# Altium schematic symbol library kmilo17pet-TI_MSP430.SchLib: 1463 symbols (part 113 of 130)
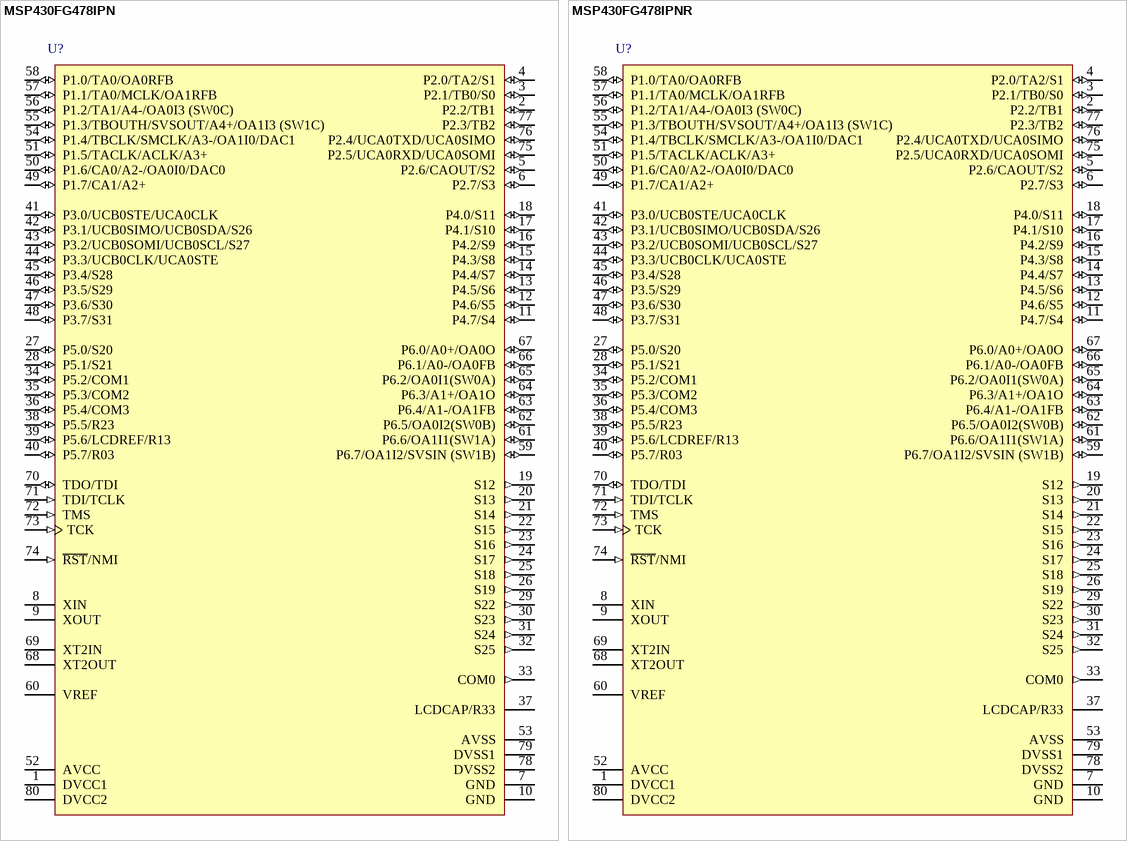
[diagram p292: symbols MSP430FG478IPN to MSP430FG478IPNR]

## MSP430FG478IPNR
designator U?
8 MHz Mixed Signal Microcontroller with 48 KB Flash, 2048 B SRAM and 48 GPIOs, -40 to 85 degC, 80-pin QFP (PN), Green (RoHS & no Sb/Br); Manufacturer: Texas Instruments; PartNumber: MSP430FG478IPNR; ADC: 16-bit Sigma Delta; Brown Out Reset: Yes; Flash(KB): 48; Frequency(MHz): 8; LCD Segments: 128; SRAM(B): 2048; SubFamily: 4 Series with LCD; Timers - 16-bit: 2; USCI_A (UART/LIN/IrDA/SPI): 1; DatasheetVersion: SLAS580D; PackageReference: PN80; PackageDescription: 80-Pin Plastic Quad Flat Pack, Body 12 x 12 mm, Pitch 0.5 mm; Supplier 1: Digi-Key; Supplier Part Number 1: MSP430FG478IPN-ND; Supplier 2: Newark; Supplier Part Number 2: 24R9828; Supplier 3: Mouser; Supplier Part Number 3: 595-MSP430FG478IPN; Comparators: Yes; Eco-Plan: Green (RoHS & no Sb/Br); GPIO: 48; SVS: Yes; Temp Sensor: Yes; USCI_B (I2C & SPI): 1; Watchdog: Yes; Mounting Technology: Surface Mount; Code_JEDEC: MS-018; ComponentLink1Description: Manufacturer URL; ComponentLink1URL: http://www.ti.com/; ComponentLink2Description: Datasheet; ComponentLink2URL: http://www.ti.com/general/docs/lit/getliterature.tsp?genericPartNumber=MSP430FG478&fileType=pdf; ComponentLink3Description: Package Specification; ComponentLink3URL: http://www.ti.com/lit/ml/mtqf010a/mtqf010a.pdf
footprint TI-PN80_N (QFP, 80-Leads, Body 12x12mm, Pitch 0.5mm, IPC Medium Density)
pins: 1 DVCC1 (power) "Digital supply voltage, positive terminal. Supplies all digital parts.", 2 P2.2/TB1 (io), 3 P2.1/TB0/S0 (io), 4 P2.0/TA2/S1 (io), 5 P2.6/CAOUT/S2 (io), 6 P2.7/S3 (io), 7 GND (power) "Ground. It is used to shield the oscillator.", 8 XIN "Input port for crystal oscillator XT1. Standard or watch crystals can be connected", 9 XOUT "Output port for crystal oscillator XT1. Standard or watch crystals can be connected.", 10 GND (power) "Ground. It is used to shield the oscillator. See Note NO TAG.", 11 P4.7/S4 (io), 12 P4.6/S5 (io), 13 P4.5/S6 (io), 14 P4.4/S7 (io), 15 P4.3/S8 (io), 16 P4.2/S9 (io), 17 P4.1/S10 (io), 18 P4.0/S11 (io), 19 S12 (out) "LCD segment output 12", 20 S13 (out) "LCD segment output 13", 21 S14 (out) "LCD segment output 14", 22 S15 (out) "LCD segment output 15", 23 S16 (out) "LCD segment output 16", 24 S17 (out) "LCD segment output 17", 25 S18 (out) "LCD segment output 18", 26 S19 (out) "LCD segment output 19", 27 P5.0/S20 (io), 28 P5.1/S21 (io), 29 S22 (out) "LCD segment output 22", 30 S23 (out) "LCD segment output 23", 31 S24 (out) "LCD segment output 24", 32 S25 (out) "LCD segment output 25", 33 COM0 (out) "Common output, COM0--3 are used for LCD backplanes", 34 P5.2/COM1 (io), 35 P5.3/COM2 (io), 36 P5.4/COM3 (io), 37 LCDCAP/R33, 38 P5.5/R23 (io), 39 P5.6/LCDREF/R13 (io), 40 P5.7/R03 (io), 41 P3.0/UCB0STE/UCA0CLK (io), 42 P3.1/UCB0SIMO/UCB0SDA/S26 (io), 43 P3.2/UCB0SOMI/UCB0SCL/S27 (io), 44 P3.3/UCB0CLK/UCA0STE (io), 45 P3.4/S28 (io), 46 P3.5/S29 (io), 47 P3.6/S30 (io), 48 P3.7/S31 (io), 49 P1.7/CA1/A2+ (io), 50 P1.6/CA0/A2-/OA0I0/DAC0 (io), 51 P1.5/TACLK/ACLK/A3+ (io), 52 AVCC (power) "Analog supply voltage, positive terminal.", 53 AVSS (power) "Analog supply voltage, negative terminal.", 54 P1.4/TBCLK/SMCLK/A3-/OA1I0/DAC1 (io), 55 P1.3/TBOUTH/SVSOUT/A4+/OA1I3 (SW1C) (io), 56 P1.2/TA1/A4-/OA0I3 (SW0C) (io), 57 P1.1/TA0/MCLK/OA1RFB (io), 58 P1.0/TA0/OA0RFB (io), 59 P6.7/OA1I2/SVSIN (SW1B) (io), 60 VREF "Input for an external reference voltage/internal reference voltage output", 61 P6.6/OA1I1(SW1A) (io), 62 P6.5/OA0I2(SW0B) (io), 63 P6.4/A1-/OA1FB (io), 64 P6.3/A1+/OA1O (io), 65 P6.2/OA0I1(SW0A) (io), 66 P6.1/A0-/OA0FB (io), 67 P6.0/A0+/OA0O (io), 68 XT2OUT "Output terminal of crystal oscillator XT2", 69 XT2IN "Input port for crystal oscillator XT2", 70 TDO/TDI (io), 71 TDI/TCLK (in), 72 TMS (in) "Test mode select. TMS is used as an input port for device programming and test.", 73 TCK (in) "Test clock (JTAG). TCK is the clock input port for device programming test and bootstrap loader start.", 74 ~{RST}/NMI (in) "Reset input, nonmaskable interrupt input port, or bootstrap loader start (in flash devices).", 75 P2.5/UCA0RXD/UCA0SOMI (io), 76 P2.4/UCA0TXD/UCA0SIMO (io), 77 P2.3/TB2 (io), 78 DVSS2 (power) "Digital supply voltage, negative terminal. Supplies all digital parts.", 79 DVSS1 (power) "Digital supply voltage, negative terminal. Supplies all digital parts.", 80 DVCC2 (power) "Digital supply voltage, positive terminal. Supplies all digital parts."

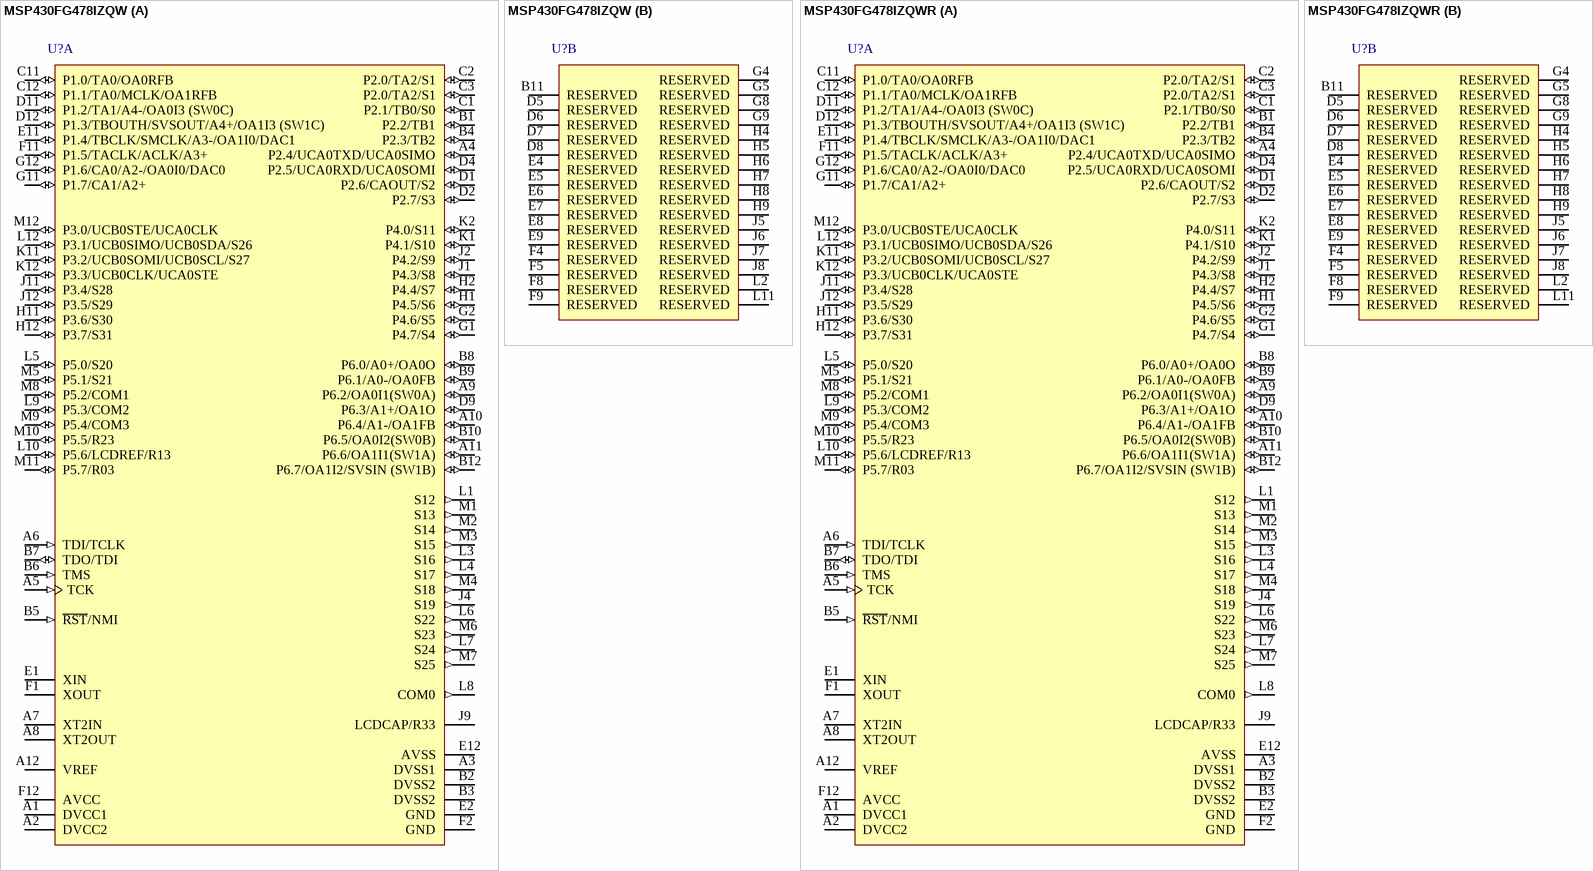
[diagram p189: symbols MSP430FG478IZQW to MSP430FG478IZQWR]

## MSP430FG478IZQW
designator U?
8 MHz Mixed Signal Microcontroller with 48 KB Flash, 2048 B SRAM and 48 GPIOs, -40 to 85 degC, 113-pin BGA (ZQW), Green (RoHS & no Sb/Br); Manufacturer: Texas Instruments; PartNumber: MSP430FG478IZQW; ADC: 16-bit Sigma Delta; Brown Out Reset: Yes; Flash(KB): 48; Frequency(MHz): 8; LCD Segments: 128; SRAM(B): 2048; SubFamily: 4 Series with LCD; Timers - 16-bit: 2; USCI_A (UART/LIN/IrDA/SPI): 1; DatasheetVersion: SLAS580D; PackageVersion: 4204599-3/D; PackageReference: ZQW113; PackageDescription: 113-Pin Plastic Ball Grid Array Package, Body 7 x 7 mm, Pitch 0.5 mm; Supplier 1: Digi-Key; Supplier Part Number 1: 296-25388-2-ND; Supplier 2: Digi-Key; Supplier Part Number 2: 296-25388-1-ND; Supplier 3: Digi-Key; Supplier Part Number 3: 296-25388-6-ND; Supplier 4: Newark; Supplier Part Number 4: 24R9829; Supplier 5: Mouser; Supplier Part Number 5: 595-MSP430FG478IPNR; Comparators: Yes; Eco-Plan: Green (RoHS & no Sb/Br); GPIO: 48; SVS: Yes; Temp Sensor: Yes; USCI_B (I2C & SPI): 1; Watchdog: Yes; Mounting Technology: Surface Mount; Code_JEDEC: MO-225; ComponentLink1Description: Manufacturer URL; ComponentLink1URL: http://www.ti.com/; ComponentLink2Description: Datasheet; ComponentLink2URL: http://www.ti.com/general/docs/lit/getliterature.tsp?genericPartNumber=MSP430FG478&fileType=pdf; ComponentLink3Description: Package Specification; ComponentLink3URL: http://www.ti.com/lit/ml/mpbg674/mpbg674.pdf
footprint TI-ZQW113 (BGA, 113-Balls, Body 7x7mm, Pitch 0.5mm)
part A pins: A1 DVCC1 (power) "Digital supply voltage, positive terminal. Supplies all digital parts.", A2 DVCC2 (power) "Digital supply voltage, positive terminal. Supplies all digital parts.", A3 DVSS1 (power) "Digital supply voltage, negative terminal. Supplies all digital parts.", A4 P2.4/UCA0TXD/UCA0SIMO (io), A5 TCK (in) "Test clock (JTAG). TCK is the clock input port for device programming test and bootstrap loader start.", A6 TDI/TCLK (in), A7 XT2IN "Input port for crystal oscillator XT2", A8 XT2OUT "Output terminal of crystal oscillator XT2", A9 P6.2/OA0I1(SW0A) (io), A10 P6.4/A1-/OA1FB (io), A11 P6.6/OA1I1(SW1A) (io), A12 VREF "Input for an external reference voltage/internal reference voltage output", B1 P2.2/TB1 (io), B2 DVSS2 (power) "Digital supply voltage, negative terminal. Supplies all digital parts.", B3 DVSS2 (power) "Digital supply voltage, negative terminal. Supplies all digital parts.", B4 P2.3/TB2 (io), B5 ~{RST}/NMI (in), B6 TMS (in) "Test mode select. TMS is used as an input port for device programming and test.", B7 TDO/TDI (io), B8 P6.0/A0+/OA0O (io), B9 P6.1/A0-/OA0FB (io), B10 P6.5/OA0I2(SW0B) (io), B12 P6.7/OA1I2/SVSIN (SW1B) (io), C1 P2.1/TB0/S0 (io), C2 P2.0/TA2/S1 (io), C3 P2.0/TA2/S1 (io), C11 P1.0/TA0/OA0RFB (io), C12 P1.1/TA0/MCLK/OA1RFB (io), D1 P2.6/CAOUT/S2 (io), D2 P2.7/S3 (io), D4 P2.5/UCA0RXD/UCA0SOMI (io), D9 P6.3/A1+/OA1O (io), D11 P1.2/TA1/A4-/OA0I3 (SW0C) (io), D12 P1.3/TBOUTH/SVSOUT/A4+/OA1I3 (SW1C) (io), E1 XIN "Input port for crystal oscillator XT1. Standard or watch crystals can be connected.", E2 GND "Ground. It is used to shield the oscillator.", E11 P1.4/TBCLK/SMCLK/A3-/OA1I0/DAC1 (io), E12 AVSS "Analog supply voltage, negative terminal.", F1 XOUT "Output port for crystal oscillator XT1. Standard or watch crystals can be connected.", F2 GND "Ground. It is used to shield the oscillator. See Note NO TAG.", F11 P1.5/TACLK/ACLK/A3+ (io), F12 AVCC (power) "Analog supply voltage, positive terminal.", G1 P4.7/S4 (io), G2 P4.6/S5 (io), G11 P1.7/CA1/A2+ (io), G12 P1.6/CA0/A2-/OA0I0/DAC0 (io), H1 P4.5/S6 (io), H2 P4.4/S7 (io), H11 P3.6/S30 (io), H12 P3.7/S31 (io), J1 P4.3/S8 (io), J2 P4.2/S9 (io), J4 S19 (out) "LCD segment output 19", J9 LCDCAP/R33, J11 P3.4/S28 (io), J12 P3.5/S29 (io), K1 P4.1/S10 (io), K2 P4.0/S11 (io), K11 P3.2/UCB0SOMI/UCB0SCL/S27 (io), K12 P3.3/UCB0CLK/UCA0STE (io), L1 S12 (out) "LCD segment output 12", L3 S16 (out) "LCD segment output 16", L4 S17 (out) "LCD segment output 17", L5 P5.0/S20 (io), L6 S22 (out) "LCD segment output 22", L7 S24 (out) "LCD segment output 24", L8 COM0 (out) "Common output, COM0-3 are used for LCD backplanes", L9 P5.3/COM2 (io), L10 P5.6/LCDREF/R13 (io), L12 P3.1/UCB0SIMO/UCB0SDA/S26 (io), M1 S13 (out) "LCD segment output 13", M2 S14 (out) "LCD segment output 14", M3 S15 (out) "LCD segment output 15", M4 S18 (out) "LCD segment output 18", M5 P5.1/S21 (io), M6 S23 (out) "LCD segment output 23", M7 S25 (out) "LCD segment output 25", M8 P5.2/COM1 (io), M9 P5.4/COM3 (io), M10 P5.5/R23 (io), M11 P5.7/R03 (io), M12 P3.0/UCB0STE/UCA0CLK (io)
part B pins: B11 RESERVED "BGA package unused balls. Connection to DVSS/AVSS recommended.", D5 RESERVED "BGA package unused balls. Connection to DVSS/AVSS recommended.", D6 RESERVED "BGA package unused balls. Connection to DVSS/AVSS recommended.", D7 RESERVED "BGA package unused balls. Connection to DVSS/AVSS recommended.", D8 RESERVED "BGA package unused balls. Connection to DVSS/AVSS recommended.", E4 RESERVED "BGA package unused balls. Connection to DVSS/AVSS recommended.", E5 RESERVED "BGA package unused balls. Connection to DVSS/AVSS recommended.", E6 RESERVED "BGA package unused balls. Connection to DVSS/AVSS recommended.", E7 RESERVED "BGA package unused balls. Connection to DVSS/AVSS recommended.", E8 RESERVED "BGA package unused balls. Connection to DVSS/AVSS recommended.", E9 RESERVED "BGA package unused balls. Connection to DVSS/AVSS recommended.", F4 RESERVED "BGA package unused balls. Connection to DVSS/AVSS recommended.", F5 RESERVED "BGA package unused balls. Connection to DVSS/AVSS recommended.", F8 RESERVED "BGA package unused balls. Connection to DVSS/AVSS recommended.", F9 RESERVED "BGA package unused balls. Connection to DVSS/AVSS recommended.", G4 RESERVED "BGA package unused balls. Connection to DVSS/AVSS recommended.", G5 RESERVED "BGA package unused balls. Connection to DVSS/AVSS recommended.", G8 RESERVED "BGA package unused balls. Connection to DVSS/AVSS recommended.", G9 RESERVED "BGA package unused balls. Connection to DVSS/AVSS recommended.", H4 RESERVED "BGA package unused balls. Connection to DVSS/AVSS recommended.", H5 RESERVED "BGA package unused balls. Connection to DVSS/AVSS recommended.", H6 RESERVED "BGA package unused balls. Connection to DVSS/AVSS recommended.", H7 RESERVED "BGA package unused balls. Connection to DVSS/AVSS recommended.", H8 RESERVED "BGA package unused balls. Connection to DVSS/AVSS recommended.", H9 RESERVED "BGA package unused balls. Connection to DVSS/AVSS recommended.", J5 RESERVED "BGA package unused balls. Connection to DVSS/AVSS recommended.", J6 RESERVED "BGA package unused balls. Connection to DVSS/AVSS recommended.", J7 RESERVED "BGA package unused balls. Connection to DVSS/AVSS recommended.", J8 RESERVED "BGA package unused balls. Connection to DVSS/AVSS recommended.", L2 RESERVED "BGA package unused balls. Connection to DVSS/AVSS recommended.", L11 RESERVED "BGA package unused balls. Connection to DVSS/AVSS recommended."

## MSP430FG478IZQWR
designator U?
8 MHz Mixed Signal Microcontroller with 48 KB Flash, 2048 B SRAM and 48 GPIOs, -40 to 85 degC, 113-pin BGA (ZQW), Green (RoHS & no Sb/Br); Manufacturer: Texas Instruments; PartNumber: MSP430FG478IZQWR; ADC: 16-bit Sigma Delta; Brown Out Reset: Yes; Flash(KB): 48; Frequency(MHz): 8; LCD Segments: 128; SRAM(B): 2048; SubFamily: 4 Series with LCD; Timers - 16-bit: 2; USCI_A (UART/LIN/IrDA/SPI): 1; DatasheetVersion: SLAS580D; PackageVersion: 4204599-3/D; PackageReference: ZQW113; PackageDescription: 113-Pin Plastic Ball Grid Array Package, Body 7 x 7 mm, Pitch 0.5 mm; Supplier 1: Digi-Key; Supplier Part Number 1: MSP430FG478IZQW-ND; Supplier 2: Mouser; Supplier Part Number 2: 595-MSP430FG478IZQW; Comparators: Yes; Eco-Plan: Green (RoHS & no Sb/Br); GPIO: 48; SVS: Yes; Temp Sensor: Yes; USCI_B (I2C & SPI): 1; Watchdog: Yes; Mounting Technology: Surface Mount; Code_JEDEC: MO-225; ComponentLink1Description: Manufacturer URL; ComponentLink1URL: http://www.ti.com/; ComponentLink2Description: Datasheet; ComponentLink2URL: http://www.ti.com/general/docs/lit/getliterature.tsp?genericPartNumber=MSP430FG478&fileType=pdf; ComponentLink3Description: Package Specification; ComponentLink3URL: http://www.ti.com/lit/ml/mpbg674/mpbg674.pdf
footprint TI-ZQW113 (BGA, 113-Balls, Body 7x7mm, Pitch 0.5mm)
part A pins: A1 DVCC1 (power) "Digital supply voltage, positive terminal. Supplies all digital parts.", A2 DVCC2 (power) "Digital supply voltage, positive terminal. Supplies all digital parts.", A3 DVSS1 (power) "Digital supply voltage, negative terminal. Supplies all digital parts.", A4 P2.4/UCA0TXD/UCA0SIMO (io), A5 TCK (in) "Test clock (JTAG). TCK is the clock input port for device programming test and bootstrap loader start.", A6 TDI/TCLK (in), A7 XT2IN "Input port for crystal oscillator XT2", A8 XT2OUT "Output terminal of crystal oscillator XT2", A9 P6.2/OA0I1(SW0A) (io), A10 P6.4/A1-/OA1FB (io), A11 P6.6/OA1I1(SW1A) (io), A12 VREF "Input for an external reference voltage/internal reference voltage output", B1 P2.2/TB1 (io), B2 DVSS2 (power) "Digital supply voltage, negative terminal. Supplies all digital parts.", B3 DVSS2 (power) "Digital supply voltage, negative terminal. Supplies all digital parts.", B4 P2.3/TB2 (io), B5 ~{RST}/NMI (in), B6 TMS (in) "Test mode select. TMS is used as an input port for device programming and test.", B7 TDO/TDI (io), B8 P6.0/A0+/OA0O (io), B9 P6.1/A0-/OA0FB (io), B10 P6.5/OA0I2(SW0B) (io), B12 P6.7/OA1I2/SVSIN (SW1B) (io), C1 P2.1/TB0/S0 (io), C2 P2.0/TA2/S1 (io), C3 P2.0/TA2/S1 (io), C11 P1.0/TA0/OA0RFB (io), C12 P1.1/TA0/MCLK/OA1RFB (io), D1 P2.6/CAOUT/S2 (io), D2 P2.7/S3 (io), D4 P2.5/UCA0RXD/UCA0SOMI (io), D9 P6.3/A1+/OA1O (io), D11 P1.2/TA1/A4-/OA0I3 (SW0C) (io), D12 P1.3/TBOUTH/SVSOUT/A4+/OA1I3 (SW1C) (io), E1 XIN "Input port for crystal oscillator XT1. Standard or watch crystals can be connected.", E2 GND "Ground. It is used to shield the oscillator.", E11 P1.4/TBCLK/SMCLK/A3-/OA1I0/DAC1 (io), E12 AVSS "Analog supply voltage, negative terminal.", F1 XOUT "Output port for crystal oscillator XT1. Standard or watch crystals can be connected.", F2 GND "Ground. It is used to shield the oscillator. See Note NO TAG.", F11 P1.5/TACLK/ACLK/A3+ (io), F12 AVCC (power) "Analog supply voltage, positive terminal.", G1 P4.7/S4 (io), G2 P4.6/S5 (io), G11 P1.7/CA1/A2+ (io), G12 P1.6/CA0/A2-/OA0I0/DAC0 (io), H1 P4.5/S6 (io), H2 P4.4/S7 (io), H11 P3.6/S30 (io), H12 P3.7/S31 (io), J1 P4.3/S8 (io), J2 P4.2/S9 (io), J4 S19 (out) "LCD segment output 19", J9 LCDCAP/R33, J11 P3.4/S28 (io), J12 P3.5/S29 (io), K1 P4.1/S10 (io), K2 P4.0/S11 (io), K11 P3.2/UCB0SOMI/UCB0SCL/S27 (io), K12 P3.3/UCB0CLK/UCA0STE (io), L1 S12 (out) "LCD segment output 12", L3 S16 (out) "LCD segment output 16", L4 S17 (out) "LCD segment output 17", L5 P5.0/S20 (io), L6 S22 (out) "LCD segment output 22", L7 S24 (out) "LCD segment output 24", L8 COM0 (out) "Common output, COM0-3 are used for LCD backplanes", L9 P5.3/COM2 (io), L10 P5.6/LCDREF/R13 (io), L12 P3.1/UCB0SIMO/UCB0SDA/S26 (io), M1 S13 (out) "LCD segment output 13", M2 S14 (out) "LCD segment output 14", M3 S15 (out) "LCD segment output 15", M4 S18 (out) "LCD segment output 18", M5 P5.1/S21 (io), M6 S23 (out) "LCD segment output 23", M7 S25 (out) "LCD segment output 25", M8 P5.2/COM1 (io), M9 P5.4/COM3 (io), M10 P5.5/R23 (io), M11 P5.7/R03 (io), M12 P3.0/UCB0STE/UCA0CLK (io)
part B pins: B11 RESERVED "BGA package unused balls. Connection to DVSS/AVSS recommended.", D5 RESERVED "BGA package unused balls. Connection to DVSS/AVSS recommended.", D6 RESERVED "BGA package unused balls. Connection to DVSS/AVSS recommended.", D7 RESERVED "BGA package unused balls. Connection to DVSS/AVSS recommended.", D8 RESERVED "BGA package unused balls. Connection to DVSS/AVSS recommended.", E4 RESERVED "BGA package unused balls. Connection to DVSS/AVSS recommended.", E5 RESERVED "BGA package unused balls. Connection to DVSS/AVSS recommended.", E6 RESERVED "BGA package unused balls. Connection to DVSS/AVSS recommended.", E7 RESERVED "BGA package unused balls. Connection to DVSS/AVSS recommended.", E8 RESERVED "BGA package unused balls. Connection to DVSS/AVSS recommended.", E9 RESERVED "BGA package unused balls. Connection to DVSS/AVSS recommended.", F4 RESERVED "BGA package unused balls. Connection to DVSS/AVSS recommended.", F5 RESERVED "BGA package unused balls. Connection to DVSS/AVSS recommended.", F8 RESERVED "BGA package unused balls. Connection to DVSS/AVSS recommended.", F9 RESERVED "BGA package unused balls. Connection to DVSS/AVSS recommended.", G4 RESERVED "BGA package unused balls. Connection to DVSS/AVSS recommended.", G5 RESERVED "BGA package unused balls. Connection to DVSS/AVSS recommended.", G8 RESERVED "BGA package unused balls. Connection to DVSS/AVSS recommended.", G9 RESERVED "BGA package unused balls. Connection to DVSS/AVSS recommended.", H4 RESERVED "BGA package unused balls. Connection to DVSS/AVSS recommended.", H5 RESERVED "BGA package unused balls. Connection to DVSS/AVSS recommended.", H6 RESERVED "BGA package unused balls. Connection to DVSS/AVSS recommended.", H7 RESERVED "BGA package unused balls. Connection to DVSS/AVSS recommended.", H8 RESERVED "BGA package unused balls. Connection to DVSS/AVSS recommended.", H9 RESERVED "BGA package unused balls. Connection to DVSS/AVSS recommended.", J5 RESERVED "BGA package unused balls. Connection to DVSS/AVSS recommended.", J6 RESERVED "BGA package unused balls. Connection to DVSS/AVSS recommended.", J7 RESERVED "BGA package unused balls. Connection to DVSS/AVSS recommended.", J8 RESERVED "BGA package unused balls. Connection to DVSS/AVSS recommended.", L2 RESERVED "BGA package unused balls. Connection to DVSS/AVSS recommended.", L11 RESERVED "BGA package unused balls. Connection to DVSS/AVSS recommended."

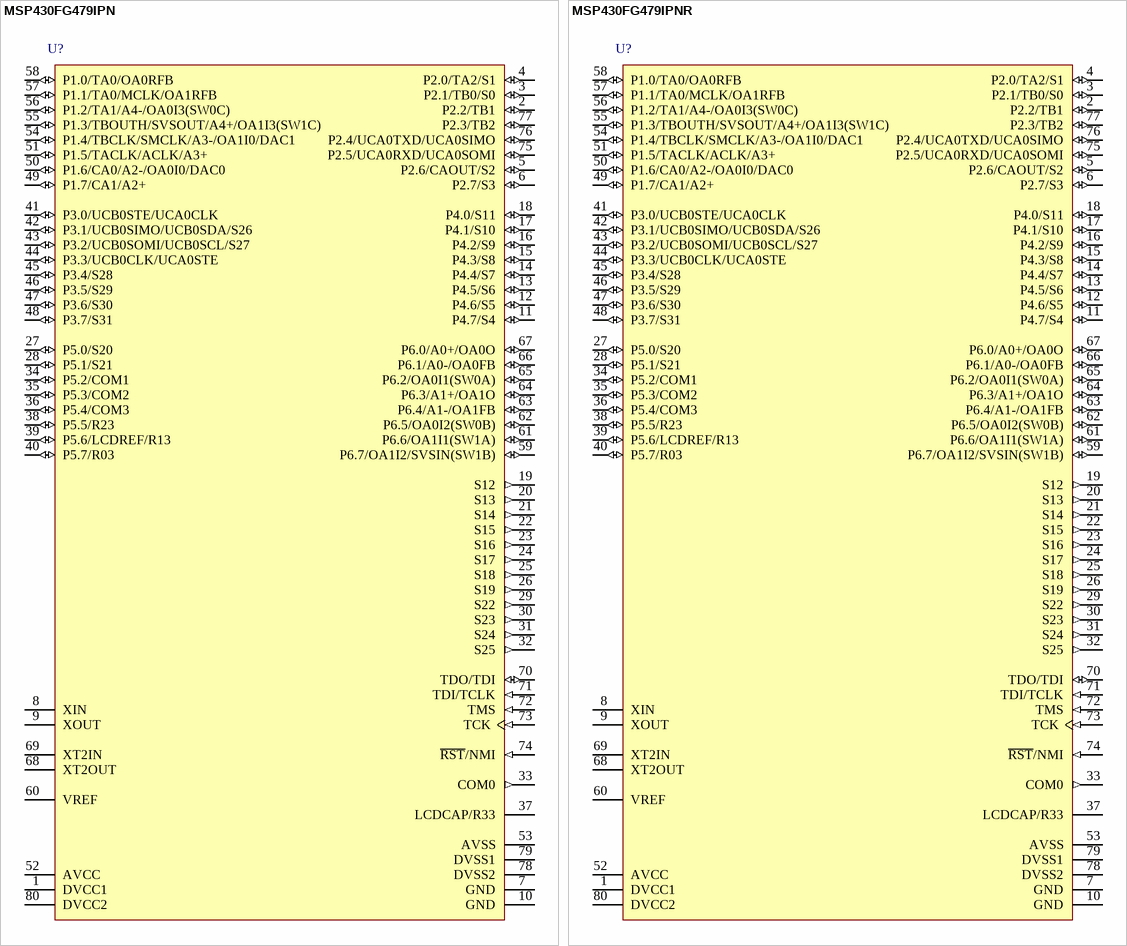
[diagram p190: symbols MSP430FG479IPN to MSP430FG479IPNR]

## MSP430FG479IPN
designator U?
8 MHz Mixed Signal Microcontroller with 60 KB Flash, 2048 B SRAM and 48 GPIOs, -40 to 85 degC, 80-pin QFP (PN), Green (RoHS & no Sb/Br); Manufacturer: Texas Instruments; PartNumber: MSP430FG479IPN; ADC: 16-bit Sigma Delta; Brown Out Reset: Yes; Flash(KB): 60; Frequency(MHz): 8; GPIO: 48; LCD Segments: 128; SRAM(B): 2048; SubFamily: 4 Series with LCD; Timers - 16-bit: 2; USCI_A (UART/LIN/IrDA/SPI): 1; DatasheetVersion: SLAS580D; PackageReference: PN80; PackageDescription: 80-Pin Plastic Quad Flat Pack, Body 12 x 12 mm, Pitch 0.5 mm; Supplier 1: Digi-Key; Supplier Part Number 1: 296-26207-5-ND; Supplier 2: Farnell; Supplier Part Number 2: 1649422; Supplier 3: Newark; Supplier Part Number 3: 28M6334; Supplier 4: Mouser; Supplier Part Number 4: 595-MSP430F2254IDA; Comparators: Yes; Eco-Plan: Green (RoHS & no Sb/Br); SVS: Yes; Temp Sensor: Yes; USCI_B (I2C & SPI): 1; Watchdog: Yes; Mounting Technology: Surface Mount; Code_JEDEC: MS-018; ComponentLink1Description: Manufacturer URL; ComponentLink1URL: http://www.ti.com/; ComponentLink2Description: Datasheet; ComponentLink2URL: http://www.ti.com/general/docs/lit/getliterature.tsp?genericPartNumber=MSP430FG479&fileType=pdf; ComponentLink3Description: Package Specification; ComponentLink3URL: http://www.ti.com/lit/ml/mtqf010a/mtqf010a.pdf
footprint TI-PN80_N (QFP, 80-Leads, Body 12x12mm, Pitch 0.5mm, IPC Medium Density)
pins: 1 DVCC1 (power) "Digital supply voltage, positive terminal. Supplies all digital parts.", 2 P2.2/TB1 (io), 3 P2.1/TB0/S0 (io), 4 P2.0/TA2/S1 (io), 5 P2.6/CAOUT/S2 (io), 6 P2.7/S3 (io), 7 GND (power) "Ground. It is used to shield the oscillator. See Note 1.", 8 XIN "Input port for crystal oscillator XT1. Standard or watch crystals can be connected.", 9 XOUT "Output port for crystal oscillator XT1. Standard or watch crystals can be connected.", 10 GND (power) "Ground. It is used to shield the oscillator. See Note NO TAG.", 11 P4.7/S4 (io), 12 P4.6/S5 (io), 13 P4.5/S6 (io), 14 P4.4/S7 (io), 15 P4.3/S8 (io), 16 P4.2/S9 (io), 17 P4.1/S10 (io), 18 P4.0/S11 (io), 19 S12 (out) "LCD segment output 12", 20 S13 (out) "LCD segment output 13", 21 S14 (out) "LCD segment output 14", 22 S15 (out) "LCD segment output 15", 23 S16 (out) "LCD segment output 16", 24 S17 (out) "LCD segment output 17", 25 S18 (out) "LCD segment output 18", 26 S19 (out) "LCD segment output 19", 27 P5.0/S20 (io), 28 P5.1/S21 (io), 29 S22 (out) "LCD segment output 22", 30 S23 (out) "LCD segment output 23", 31 S24 (out) "LCD segment output 24", 32 S25 (out) "LCD segment output 25", 33 COM0 (out) "Common output, COM0--3 are used for LCD backplanes", 34 P5.2/COM1 (io), 35 P5.3/COM2 (io), 36 P5.4/COM3 (io), 37 LCDCAP/R33, 38 P5.5/R23 (io), 39 P5.6/LCDREF/R13 (io), 40 P5.7/R03 (io), 41 P3.0/UCB0STE/UCA0CLK (io), 42 P3.1/UCB0SIMO/UCB0SDA/S26 (io), 43 P3.2/UCB0SOMI/UCB0SCL/S27 (io), 44 P3.3/UCB0CLK/UCA0STE (io), 45 P3.4/S28 (io), 46 P3.5/S29 (io), 47 P3.6/S30 (io), 48 P3.7/S31 (io), 49 P1.7/CA1/A2+ (io), 50 P1.6/CA0/A2-/OA0I0/DAC0 (io), 51 P1.5/TACLK/ACLK/A3+ (io), 52 AVCC (power) "Analog supply voltage, positive terminal.", 53 AVSS (power) "Analog supply voltage, negative terminal.", 54 P1.4/TBCLK/SMCLK/A3-/OA1I0/DAC1 (io), 55 P1.3/TBOUTH/SVSOUT/A4+/OA1I3(SW1C) (io), 56 P1.2/TA1/A4-/OA0I3(SW0C) (io), 57 P1.1/TA0/MCLK/OA1RFB (io), 58 P1.0/TA0/OA0RFB (io), 59 P6.7/OA1I2/SVSIN(SW1B) (io), 60 VREF "Input for an external reference voltage/internal reference voltage output", 61 P6.6/OA1I1(SW1A) (io), 62 P6.5/OA0I2(SW0B) (io), 63 P6.4/A1-/OA1FB (io), 64 P6.3/A1+/OA1O (io), 65 P6.2/OA0I1(SW0A) (io), 66 P6.1/A0-/OA0FB (io), 67 P6.0/A0+/OA0O (io), 68 XT2OUT "Output terminal of crystal oscillator XT2", 69 XT2IN "Input port for crystal oscillator XT2", 70 TDO/TDI (io), 71 TDI/TCLK (in), 72 TMS (in) "Test mode select. TMS is used as an input port for device programming and test.", 73 TCK (in) "Test clock (JTAG). TCK is the clock input port for device programming test and bootstrap loader start.", 74 ~{RST}/NMI (in), 75 P2.5/UCA0RXD/UCA0SOMI (io), 76 P2.4/UCA0TXD/UCA0SIMO (io), 77 P2.3/TB2 (io), 78 DVSS2 "Digital supply voltage, negative terminal. Supplies all digital parts.", 79 DVSS1 "Digital supply voltage, negative terminal. Supplies all digital parts.", 80 DVCC2 (power) "Digital supply voltage, positive terminal. Supplies all digital parts."

## MSP430FG479IPNR
designator U?
8 MHz Mixed Signal Microcontroller with 60 KB Flash, 2048 B SRAM and 48 GPIOs, -40 to 85 degC, 80-pin QFP (PN), Green (RoHS & no Sb/Br); Manufacturer: Texas Instruments; PartNumber: MSP430FG479IPNR; ADC: 16-bit Sigma Delta; Brown Out Reset: Yes; Flash(KB): 60; Frequency(MHz): 8; GPIO: 48; LCD Segments: 128; SRAM(B): 2048; SubFamily: 4 Series with LCD; Timers - 16-bit: 2; USCI_A (UART/LIN/IrDA/SPI): 1; DatasheetVersion: SLAS580D; PackageReference: PN80; PackageDescription: 80-Pin Plastic Quad Flat Pack, Body 12 x 12 mm, Pitch 0.5 mm; Supplier 1: Digi-Key; Supplier Part Number 1: MSP430FG479IPN-ND; Supplier 2: Newark; Supplier Part Number 2: 09R4953; Supplier 3: Mouser; Supplier Part Number 3: 595-MSP430FG479IPN; Comparators: Yes; Eco-Plan: Green (RoHS & no Sb/Br); SVS: Yes; Temp Sensor: Yes; USCI_B (I2C & SPI): 1; Watchdog: Yes; Mounting Technology: Surface Mount; Code_JEDEC: MS-018; ComponentLink1Description: Manufacturer URL; ComponentLink1URL: http://www.ti.com/; ComponentLink2Description: Datasheet; ComponentLink2URL: http://www.ti.com/general/docs/lit/getliterature.tsp?genericPartNumber=MSP430FG479&fileType=pdf; ComponentLink3Description: Package Specification; ComponentLink3URL: http://www.ti.com/lit/ml/mtqf010a/mtqf010a.pdf
footprint TI-PN80_N (QFP, 80-Leads, Body 12x12mm, Pitch 0.5mm, IPC Medium Density)
pins: 1 DVCC1 (power) "Digital supply voltage, positive terminal. Supplies all digital parts.", 2 P2.2/TB1 (io), 3 P2.1/TB0/S0 (io), 4 P2.0/TA2/S1 (io), 5 P2.6/CAOUT/S2 (io), 6 P2.7/S3 (io), 7 GND (power) "Ground. It is used to shield the oscillator. See Note 1.", 8 XIN "Input port for crystal oscillator XT1. Standard or watch crystals can be connected.", 9 XOUT "Output port for crystal oscillator XT1. Standard or watch crystals can be connected.", 10 GND (power) "Ground. It is used to shield the oscillator. See Note NO TAG.", 11 P4.7/S4 (io), 12 P4.6/S5 (io), 13 P4.5/S6 (io), 14 P4.4/S7 (io), 15 P4.3/S8 (io), 16 P4.2/S9 (io), 17 P4.1/S10 (io), 18 P4.0/S11 (io), 19 S12 (out) "LCD segment output 12", 20 S13 (out) "LCD segment output 13", 21 S14 (out) "LCD segment output 14", 22 S15 (out) "LCD segment output 15", 23 S16 (out) "LCD segment output 16", 24 S17 (out) "LCD segment output 17", 25 S18 (out) "LCD segment output 18", 26 S19 (out) "LCD segment output 19", 27 P5.0/S20 (io), 28 P5.1/S21 (io), 29 S22 (out) "LCD segment output 22", 30 S23 (out) "LCD segment output 23", 31 S24 (out) "LCD segment output 24", 32 S25 (out) "LCD segment output 25", 33 COM0 (out) "Common output, COM0--3 are used for LCD backplanes", 34 P5.2/COM1 (io), 35 P5.3/COM2 (io), 36 P5.4/COM3 (io), 37 LCDCAP/R33, 38 P5.5/R23 (io), 39 P5.6/LCDREF/R13 (io), 40 P5.7/R03 (io), 41 P3.0/UCB0STE/UCA0CLK (io), 42 P3.1/UCB0SIMO/UCB0SDA/S26 (io), 43 P3.2/UCB0SOMI/UCB0SCL/S27 (io), 44 P3.3/UCB0CLK/UCA0STE (io), 45 P3.4/S28 (io), 46 P3.5/S29 (io), 47 P3.6/S30 (io), 48 P3.7/S31 (io), 49 P1.7/CA1/A2+ (io), 50 P1.6/CA0/A2-/OA0I0/DAC0 (io), 51 P1.5/TACLK/ACLK/A3+ (io), 52 AVCC (power) "Analog supply voltage, positive terminal.", 53 AVSS (power) "Analog supply voltage, negative terminal.", 54 P1.4/TBCLK/SMCLK/A3-/OA1I0/DAC1 (io), 55 P1.3/TBOUTH/SVSOUT/A4+/OA1I3(SW1C) (io), 56 P1.2/TA1/A4-/OA0I3(SW0C) (io), 57 P1.1/TA0/MCLK/OA1RFB (io), 58 P1.0/TA0/OA0RFB (io), 59 P6.7/OA1I2/SVSIN(SW1B) (io), 60 VREF "Input for an external reference voltage/internal reference voltage output", 61 P6.6/OA1I1(SW1A) (io), 62 P6.5/OA0I2(SW0B) (io), 63 P6.4/A1-/OA1FB (io), 64 P6.3/A1+/OA1O (io), 65 P6.2/OA0I1(SW0A) (io), 66 P6.1/A0-/OA0FB (io), 67 P6.0/A0+/OA0O (io), 68 XT2OUT "Output terminal of crystal oscillator XT2", 69 XT2IN "Input port for crystal oscillator XT2", 70 TDO/TDI (io), 71 TDI/TCLK (in), 72 TMS (in) "Test mode select. TMS is used as an input port for device programming and test.", 73 TCK (in) "Test clock (JTAG). TCK is the clock input port for device programming test and bootstrap loader start.", 74 ~{RST}/NMI (in), 75 P2.5/UCA0RXD/UCA0SOMI (io), 76 P2.4/UCA0TXD/UCA0SIMO (io), 77 P2.3/TB2 (io), 78 DVSS2 "Digital supply voltage, negative terminal. Supplies all digital parts.", 79 DVSS1 "Digital supply voltage, negative terminal. Supplies all digital parts.", 80 DVCC2 (power) "Digital supply voltage, positive terminal. Supplies all digital parts."

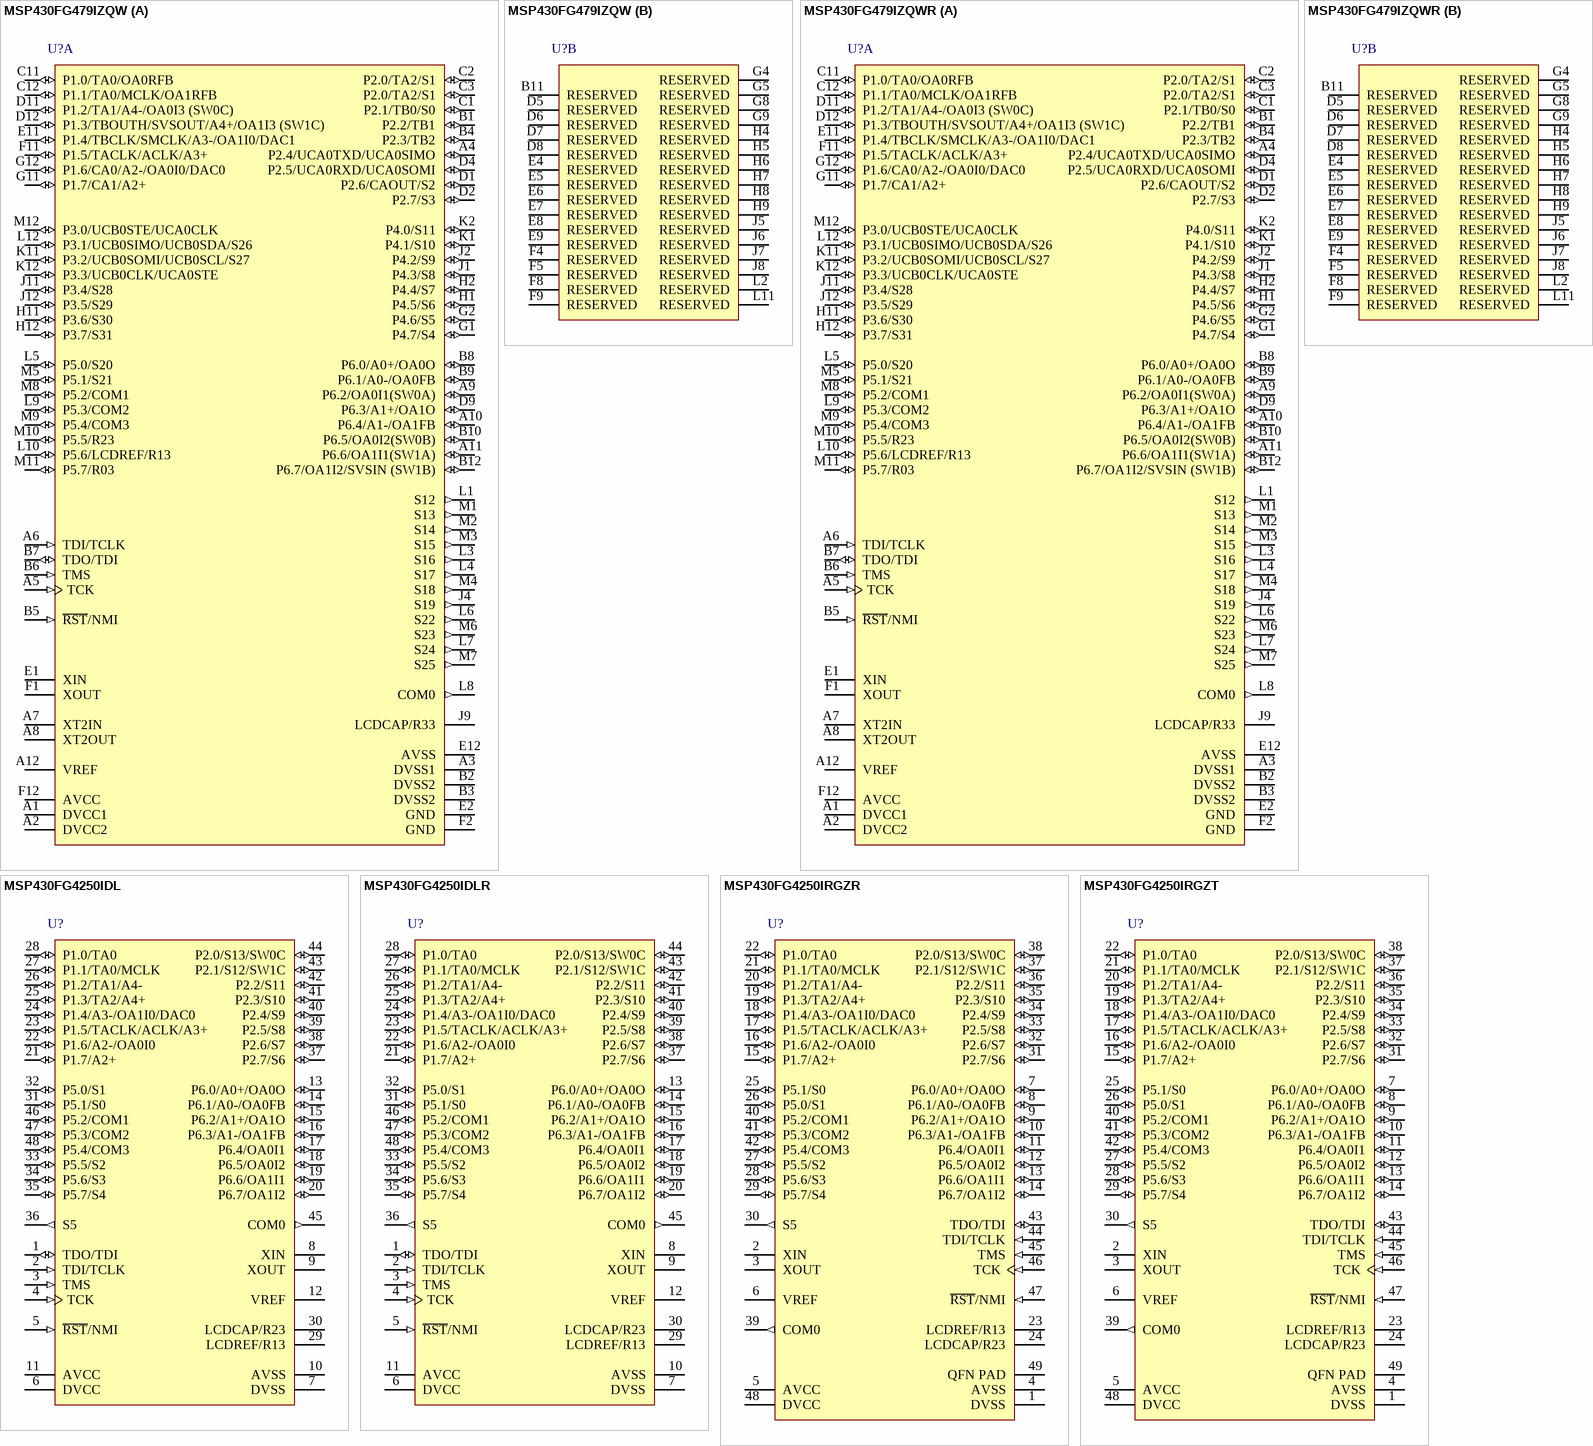
[diagram p191: symbols MSP430FG479IZQW to MSP430FG4250IRGZT]

## MSP430FG479IZQW
designator U?
8 MHz Mixed Signal Microcontroller with 60 KB Flash, 2048 B SRAM and 48 GPIOs, -40 to 85 degC, 113-pin BGA (ZQW), Green (RoHS & no Sb/Br); Manufacturer: Texas Instruments; PartNumber: MSP430FG479IZQW; ADC: 16-bit Sigma Delta; Brown Out Reset: Yes; Flash(KB): 60; Frequency(MHz): 8; GPIO: 48; LCD Segments: 128; SRAM(B): 2048; SubFamily: 4 Series with LCD; Timers - 16-bit: 2; USCI_A (UART/LIN/IrDA/SPI): 1; DatasheetVersion: SLAS580D; PackageVersion: 4204599-3/D; PackageReference: ZQW113; PackageDescription: 113-Pin Plastic Ball Grid Array Package, Body 7 x 7 mm, Pitch 0.5 mm; Supplier 1: Digi-Key; Supplier Part Number 1: 296-24305-2-ND; Supplier 2: Digi-Key; Supplier Part Number 2: 296-24305-1-ND; Supplier 3: Digi-Key; Supplier Part Number 3: 296-24305-6-ND; Supplier 4: Newark; Supplier Part Number 4: 09R4954; Supplier 5: Mouser; Supplier Part Number 5: 595-MSP430FG479IPNR; Comparators: Yes; Eco-Plan: Green (RoHS & no Sb/Br); SVS: Yes; Temp Sensor: Yes; USCI_B (I2C & SPI): 1; Watchdog: Yes; Mounting Technology: Surface Mount; Code_JEDEC: MO-225; ComponentLink1Description: Manufacturer URL; ComponentLink1URL: http://www.ti.com/; ComponentLink2Description: Datasheet; ComponentLink2URL: http://www.ti.com/general/docs/lit/getliterature.tsp?genericPartNumber=MSP430FG479&fileType=pdf; ComponentLink3Description: Package Specification; ComponentLink3URL: http://www.ti.com/lit/ml/mpbg674/mpbg674.pdf
footprint TI-ZQW113 (BGA, 113-Balls, Body 7x7mm, Pitch 0.5mm)
part A pins: A1 DVCC1 (power) "Digital supply voltage, positive terminal. Supplies all digital parts.", A2 DVCC2 (power) "Digital supply voltage, positive terminal. Supplies all digital parts.", A3 DVSS1 (power) "Digital supply voltage, negative terminal. Supplies all digital parts.", A4 P2.4/UCA0TXD/UCA0SIMO (io), A5 TCK (in) "Test clock (JTAG). TCK is the clock input port for device programming test and bootstrap loader start.", A6 TDI/TCLK (in), A7 XT2IN "Input port for crystal oscillator XT2", A8 XT2OUT "Output terminal of crystal oscillator XT2", A9 P6.2/OA0I1(SW0A) (io), A10 P6.4/A1-/OA1FB (io), A11 P6.6/OA1I1(SW1A) (io), A12 VREF "Input for an external reference voltage/internal reference voltage output", B1 P2.2/TB1 (io), B2 DVSS2 (power) "Digital supply voltage, negative terminal. Supplies all digital parts.", B3 DVSS2 (power) "Digital supply voltage, negative terminal. Supplies all digital parts.", B4 P2.3/TB2 (io), B5 ~{RST}/NMI (in), B6 TMS (in) "Test mode select. TMS is used as an input port for device programming and test.", B7 TDO/TDI (io), B8 P6.0/A0+/OA0O (io), B9 P6.1/A0-/OA0FB (io), B10 P6.5/OA0I2(SW0B) (io), B12 P6.7/OA1I2/SVSIN (SW1B) (io), C1 P2.1/TB0/S0 (io), C2 P2.0/TA2/S1 (io), C3 P2.0/TA2/S1 (io), C11 P1.0/TA0/OA0RFB (io), C12 P1.1/TA0/MCLK/OA1RFB (io), D1 P2.6/CAOUT/S2 (io), D2 P2.7/S3 (io), D4 P2.5/UCA0RXD/UCA0SOMI (io), D9 P6.3/A1+/OA1O (io), D11 P1.2/TA1/A4-/OA0I3 (SW0C) (io), D12 P1.3/TBOUTH/SVSOUT/A4+/OA1I3 (SW1C) (io), E1 XIN "Input port for crystal oscillator XT1. Standard or watch crystals can be connected.", E2 GND "Ground. It is used to shield the oscillator.", E11 P1.4/TBCLK/SMCLK/A3-/OA1I0/DAC1 (io), E12 AVSS "Analog supply voltage, negative terminal.", F1 XOUT "Output port for crystal oscillator XT1. Standard or watch crystals can be connected.", F2 GND "Ground. It is used to shield the oscillator. See Note NO TAG.", F11 P1.5/TACLK/ACLK/A3+ (io), F12 AVCC (power) "Analog supply voltage, positive terminal.", G1 P4.7/S4 (io), G2 P4.6/S5 (io), G11 P1.7/CA1/A2+ (io), G12 P1.6/CA0/A2-/OA0I0/DAC0 (io), H1 P4.5/S6 (io), H2 P4.4/S7 (io), H11 P3.6/S30 (io), H12 P3.7/S31 (io), J1 P4.3/S8 (io), J2 P4.2/S9 (io), J4 S19 (out) "LCD segment output 19", J9 LCDCAP/R33, J11 P3.4/S28 (io), J12 P3.5/S29 (io), K1 P4.1/S10 (io), K2 P4.0/S11 (io), K11 P3.2/UCB0SOMI/UCB0SCL/S27 (io), K12 P3.3/UCB0CLK/UCA0STE (io), L1 S12 (out) "LCD segment output 12", L3 S16 (out) "LCD segment output 16", L4 S17 (out) "LCD segment output 17", L5 P5.0/S20 (io), L6 S22 (out) "LCD segment output 22", L7 S24 (out) "LCD segment output 24", L8 COM0 (out) "Common output, COM0-3 are used for LCD backplanes", L9 P5.3/COM2 (io), L10 P5.6/LCDREF/R13 (io), L12 P3.1/UCB0SIMO/UCB0SDA/S26 (io), M1 S13 (out) "LCD segment output 13", M2 S14 (out) "LCD segment output 14", M3 S15 (out) "LCD segment output 15", M4 S18 (out) "LCD segment output 18", M5 P5.1/S21 (io), M6 S23 (out) "LCD segment output 23", M7 S25 (out) "LCD segment output 25", M8 P5.2/COM1 (io), M9 P5.4/COM3 (io), M10 P5.5/R23 (io), M11 P5.7/R03 (io), M12 P3.0/UCB0STE/UCA0CLK (io)
part B pins: B11 RESERVED "BGA package unused balls. Connection to DVSS/AVSS recommended.", D5 RESERVED "BGA package unused balls. Connection to DVSS/AVSS recommended.", D6 RESERVED "BGA package unused balls. Connection to DVSS/AVSS recommended.", D7 RESERVED "BGA package unused balls. Connection to DVSS/AVSS recommended.", D8 RESERVED "BGA package unused balls. Connection to DVSS/AVSS recommended.", E4 RESERVED "BGA package unused balls. Connection to DVSS/AVSS recommended.", E5 RESERVED "BGA package unused balls. Connection to DVSS/AVSS recommended.", E6 RESERVED "BGA package unused balls. Connection to DVSS/AVSS recommended.", E7 RESERVED "BGA package unused balls. Connection to DVSS/AVSS recommended.", E8 RESERVED "BGA package unused balls. Connection to DVSS/AVSS recommended.", E9 RESERVED "BGA package unused balls. Connection to DVSS/AVSS recommended.", F4 RESERVED "BGA package unused balls. Connection to DVSS/AVSS recommended.", F5 RESERVED "BGA package unused balls. Connection to DVSS/AVSS recommended.", F8 RESERVED "BGA package unused balls. Connection to DVSS/AVSS recommended.", F9 RESERVED "BGA package unused balls. Connection to DVSS/AVSS recommended.", G4 RESERVED "BGA package unused balls. Connection to DVSS/AVSS recommended.", G5 RESERVED "BGA package unused balls. Connection to DVSS/AVSS recommended.", G8 RESERVED "BGA package unused balls. Connection to DVSS/AVSS recommended.", G9 RESERVED "BGA package unused balls. Connection to DVSS/AVSS recommended.", H4 RESERVED "BGA package unused balls. Connection to DVSS/AVSS recommended.", H5 RESERVED "BGA package unused balls. Connection to DVSS/AVSS recommended.", H6 RESERVED "BGA package unused balls. Connection to DVSS/AVSS recommended.", H7 RESERVED "BGA package unused balls. Connection to DVSS/AVSS recommended.", H8 RESERVED "BGA package unused balls. Connection to DVSS/AVSS recommended.", H9 RESERVED "BGA package unused balls. Connection to DVSS/AVSS recommended.", J5 RESERVED "BGA package unused balls. Connection to DVSS/AVSS recommended.", J6 RESERVED "BGA package unused balls. Connection to DVSS/AVSS recommended.", J7 RESERVED "BGA package unused balls. Connection to DVSS/AVSS recommended.", J8 RESERVED "BGA package unused balls. Connection to DVSS/AVSS recommended.", L2 RESERVED "BGA package unused balls. Connection to DVSS/AVSS recommended.", L11 RESERVED "BGA package unused balls. Connection to DVSS/AVSS recommended."

## MSP430FG479IZQWR
designator U?
8 MHz Mixed Signal Microcontroller with 60 KB Flash, 2048 B SRAM and 48 GPIOs, -40 to 85 degC, 113-pin BGA (ZQW), Green (RoHS & no Sb/Br); Manufacturer: Texas Instruments; PartNumber: MSP430FG479IZQWR; ADC: 16-bit Sigma Delta; Brown Out Reset: Yes; Flash(KB): 60; Frequency(MHz): 8; GPIO: 48; LCD Segments: 128; SRAM(B): 2048; SubFamily: 4 Series with LCD; Timers - 16-bit: 2; USCI_A (UART/LIN/IrDA/SPI): 1; DatasheetVersion: SLAS580D; PackageVersion: 4204599-3/D; PackageReference: ZQW113; PackageDescription: 113-Pin Plastic Ball Grid Array Package, Body 7 x 7 mm, Pitch 0.5 mm; Supplier 1: Digi-Key; Supplier Part Number 1: 296-32677-ND; Supplier 2: Newark; Supplier Part Number 2: 24R9832; Supplier 3: Mouser; Supplier Part Number 3: 595-MSP430FG479IZQW; Comparators: Yes; Eco-Plan: Green (RoHS & no Sb/Br); SVS: Yes; Temp Sensor: Yes; USCI_B (I2C & SPI): 1; Watchdog: Yes; Mounting Technology: Surface Mount; Code_JEDEC: MO-225; ComponentLink1Description: Manufacturer URL; ComponentLink1URL: http://www.ti.com/; ComponentLink2Description: Datasheet; ComponentLink2URL: http://www.ti.com/general/docs/lit/getliterature.tsp?genericPartNumber=MSP430FG479&fileType=pdf; ComponentLink3Description: Package Specification; ComponentLink3URL: http://www.ti.com/lit/ml/mpbg674/mpbg674.pdf
footprint TI-ZQW113 (BGA, 113-Balls, Body 7x7mm, Pitch 0.5mm)
part A pins: A1 DVCC1 (power) "Digital supply voltage, positive terminal. Supplies all digital parts.", A2 DVCC2 (power) "Digital supply voltage, positive terminal. Supplies all digital parts.", A3 DVSS1 (power) "Digital supply voltage, negative terminal. Supplies all digital parts.", A4 P2.4/UCA0TXD/UCA0SIMO (io), A5 TCK (in) "Test clock (JTAG). TCK is the clock input port for device programming test and bootstrap loader start.", A6 TDI/TCLK (in), A7 XT2IN "Input port for crystal oscillator XT2", A8 XT2OUT "Output terminal of crystal oscillator XT2", A9 P6.2/OA0I1(SW0A) (io), A10 P6.4/A1-/OA1FB (io), A11 P6.6/OA1I1(SW1A) (io), A12 VREF "Input for an external reference voltage/internal reference voltage output", B1 P2.2/TB1 (io), B2 DVSS2 (power) "Digital supply voltage, negative terminal. Supplies all digital parts.", B3 DVSS2 (power) "Digital supply voltage, negative terminal. Supplies all digital parts.", B4 P2.3/TB2 (io), B5 ~{RST}/NMI (in), B6 TMS (in) "Test mode select. TMS is used as an input port for device programming and test.", B7 TDO/TDI (io), B8 P6.0/A0+/OA0O (io), B9 P6.1/A0-/OA0FB (io), B10 P6.5/OA0I2(SW0B) (io), B12 P6.7/OA1I2/SVSIN (SW1B) (io), C1 P2.1/TB0/S0 (io), C2 P2.0/TA2/S1 (io), C3 P2.0/TA2/S1 (io), C11 P1.0/TA0/OA0RFB (io), C12 P1.1/TA0/MCLK/OA1RFB (io), D1 P2.6/CAOUT/S2 (io), D2 P2.7/S3 (io), D4 P2.5/UCA0RXD/UCA0SOMI (io), D9 P6.3/A1+/OA1O (io), D11 P1.2/TA1/A4-/OA0I3 (SW0C) (io), D12 P1.3/TBOUTH/SVSOUT/A4+/OA1I3 (SW1C) (io), E1 XIN "Input port for crystal oscillator XT1. Standard or watch crystals can be connected.", E2 GND "Ground. It is used to shield the oscillator.", E11 P1.4/TBCLK/SMCLK/A3-/OA1I0/DAC1 (io), E12 AVSS "Analog supply voltage, negative terminal.", F1 XOUT "Output port for crystal oscillator XT1. Standard or watch crystals can be connected.", F2 GND "Ground. It is used to shield the oscillator. See Note NO TAG.", F11 P1.5/TACLK/ACLK/A3+ (io), F12 AVCC (power) "Analog supply voltage, positive terminal.", G1 P4.7/S4 (io), G2 P4.6/S5 (io), G11 P1.7/CA1/A2+ (io), G12 P1.6/CA0/A2-/OA0I0/DAC0 (io), H1 P4.5/S6 (io), H2 P4.4/S7 (io), H11 P3.6/S30 (io), H12 P3.7/S31 (io), J1 P4.3/S8 (io), J2 P4.2/S9 (io), J4 S19 (out) "LCD segment output 19", J9 LCDCAP/R33, J11 P3.4/S28 (io), J12 P3.5/S29 (io), K1 P4.1/S10 (io), K2 P4.0/S11 (io), K11 P3.2/UCB0SOMI/UCB0SCL/S27 (io), K12 P3.3/UCB0CLK/UCA0STE (io), L1 S12 (out) "LCD segment output 12", L3 S16 (out) "LCD segment output 16", L4 S17 (out) "LCD segment output 17", L5 P5.0/S20 (io), L6 S22 (out) "LCD segment output 22", L7 S24 (out) "LCD segment output 24", L8 COM0 (out) "Common output, COM0-3 are used for LCD backplanes", L9 P5.3/COM2 (io), L10 P5.6/LCDREF/R13 (io), L12 P3.1/UCB0SIMO/UCB0SDA/S26 (io), M1 S13 (out) "LCD segment output 13", M2 S14 (out) "LCD segment output 14", M3 S15 (out) "LCD segment output 15", M4 S18 (out) "LCD segment output 18", M5 P5.1/S21 (io), M6 S23 (out) "LCD segment output 23", M7 S25 (out) "LCD segment output 25", M8 P5.2/COM1 (io), M9 P5.4/COM3 (io), M10 P5.5/R23 (io), M11 P5.7/R03 (io), M12 P3.0/UCB0STE/UCA0CLK (io)
part B pins: B11 RESERVED "BGA package unused balls. Connection to DVSS/AVSS recommended.", D5 RESERVED "BGA package unused balls. Connection to DVSS/AVSS recommended.", D6 RESERVED "BGA package unused balls. Connection to DVSS/AVSS recommended.", D7 RESERVED "BGA package unused balls. Connection to DVSS/AVSS recommended.", D8 RESERVED "BGA package unused balls. Connection to DVSS/AVSS recommended.", E4 RESERVED "BGA package unused balls. Connection to DVSS/AVSS recommended.", E5 RESERVED "BGA package unused balls. Connection to DVSS/AVSS recommended.", E6 RESERVED "BGA package unused balls. Connection to DVSS/AVSS recommended.", E7 RESERVED "BGA package unused balls. Connection to DVSS/AVSS recommended.", E8 RESERVED "BGA package unused balls. Connection to DVSS/AVSS recommended.", E9 RESERVED "BGA package unused balls. Connection to DVSS/AVSS recommended.", F4 RESERVED "BGA package unused balls. Connection to DVSS/AVSS recommended.", F5 RESERVED "BGA package unused balls. Connection to DVSS/AVSS recommended.", F8 RESERVED "BGA package unused balls. Connection to DVSS/AVSS recommended.", F9 RESERVED "BGA package unused balls. Connection to DVSS/AVSS recommended.", G4 RESERVED "BGA package unused balls. Connection to DVSS/AVSS recommended.", G5 RESERVED "BGA package unused balls. Connection to DVSS/AVSS recommended.", G8 RESERVED "BGA package unused balls. Connection to DVSS/AVSS recommended.", G9 RESERVED "BGA package unused balls. Connection to DVSS/AVSS recommended.", H4 RESERVED "BGA package unused balls. Connection to DVSS/AVSS recommended.", H5 RESERVED "BGA package unused balls. Connection to DVSS/AVSS recommended.", H6 RESERVED "BGA package unused balls. Connection to DVSS/AVSS recommended.", H7 RESERVED "BGA package unused balls. Connection to DVSS/AVSS recommended.", H8 RESERVED "BGA package unused balls. Connection to DVSS/AVSS recommended.", H9 RESERVED "BGA package unused balls. Connection to DVSS/AVSS recommended.", J5 RESERVED "BGA package unused balls. Connection to DVSS/AVSS recommended.", J6 RESERVED "BGA package unused balls. Connection to DVSS/AVSS recommended.", J7 RESERVED "BGA package unused balls. Connection to DVSS/AVSS recommended.", J8 RESERVED "BGA package unused balls. Connection to DVSS/AVSS recommended.", L2 RESERVED "BGA package unused balls. Connection to DVSS/AVSS recommended.", L11 RESERVED "BGA package unused balls. Connection to DVSS/AVSS recommended."

## MSP430FG4250IDL
designator U?
8 MHz Mixed Signal Microcontroller with 16 KB Flash, 256 B SRAM and 32 GPIOs, -40 to 85 degC, 48-pin SOP (DL), Green (RoHS & no Sb/Br); Manufacturer: Texas Instruments; PartNumber: MSP430FG4250IDL; ADC: 16-bit Sigma Delta; DAC: 1; Flash(KB): 16; Frequency(MHz): 8; GPIO: 32; LCD Segments: 56; SRAM(B): 256; SubFamily: 4 Series with LCD; Temp Sensor: Yes; DatasheetVersion: SLAS556A; PackageVersion: 4040048/E; PackageReference: DL48; PackageDescription: 48-Pin Plastic Small Outline, Body 7.49 x 15.88 mm, Pitch 0.635 mm; Supplier 1: Digi-Key; Supplier Part Number 1: 296-26236-2-ND; Supplier 2: Digi-Key; Supplier Part Number 2: 296-26236-1-ND; Supplier 3: Digi-Key; Supplier Part Number 3: 296-26236-6-ND; Supplier 4: Newark; Supplier Part Number 4: 10J9443; Supplier 5: Mouser; Supplier Part Number 5: 595-430FE427IPMR; Eco-Plan: Green (RoHS & no Sb/Br); Mounting Technology: Surface Mount; Code_JEDEC: MO-118; ComponentLink1Description: Manufacturer URL; ComponentLink1URL: http://www.ti.com/; ComponentLink2Description: Datasheet; ComponentLink2URL: http://www.ti.com/general/docs/lit/getliterature.tsp?genericPartNumber=MSP430FG4250&fileType=pdf; ComponentLink3Description: Package Specification; ComponentLink3URL: http://www.ti.com/lit/ml/msso001c/msso001c.pdf
footprint TI-DL48_N (SOP, 48-Leads, Body 15.88x7.49mm, Pitch 0.635mm, IPC Medium Density)
pins: 1 TDO/TDI (io), 2 TDI/TCLK (in), 3 TMS (in) "Test mode select. TMS is used as an input port for device programming and test.", 4 TCK (in) "Test clock. TCK is the clock input port for device programming and test.", 5 ~{RST}/NMI (in), 6 DVCC (power) "Digital supply voltage, positive terminal", 7 DVSS (power) "Digital supply voltage, negative terminal", 8 XIN "Input terminal of crystal oscillator XT1", 9 XOUT "Output terminal of crystal oscillator XT1", 10 AVSS (power) "Analog supply voltage, negative terminal", 11 AVCC (power) "Analog supply voltage, positive terminal", 12 VREF "Analog reference voltage", 13 P6.0/A0+/OA0O (io), 14 P6.1/A0-/OA0FB (io), 15 P6.2/A1+/OA1O (io), 16 P6.3/A1-/OA1FB (io), 17 P6.4/OA0I1 (io), 18 P6.5/OA0I2 (io), 19 P6.6/OA1I1 (io), 20 P6.7/OA1I2 (io), 21 P1.7/A2+ (io), 22 P1.6/A2-/OA0I0 (io), 23 P1.5/TACLK/ACLK/A3+ (io), 24 P1.4/A3-/OA1I0/DAC0 (io), 25 P1.3/TA2/A4+ (io), 26 P1.2/TA1/A4- (io), 27 P1.1/TA0/MCLK (io), 28 P1.0/TA0 (io), 29 LCDREF/R13, 30 LCDCAP/R23, 31 P5.1/S0 (io), 32 P5.0/S1 (io), 33 P5.5/S2 (io), 34 P5.6/S3 (io), 35 P5.7/S4 (io), 36 S5 (out) "LCD segment output 5", 37 P2.7/S6 (io), 38 P2.6/S7 (io), 39 P2.5/S8 (io), 40 P2.4/S9 (io), 41 P2.3/S10 (io), 42 P2.2/S11 (io), 43 P2.1/S12/SW1C (io), 44 P2.0/S13/SW0C (io), 45 COM0 (out) "Common output, COM0-3 are used for LCD backplanes.", 46 P5.2/COM1 (io), 47 P5.3/COM2 (io), 48 P5.4/COM3 (io)

## MSP430FG4250IDLR
designator U?
8 MHz Mixed Signal Microcontroller with 16 KB Flash, 256 B SRAM and 32 GPIOs, -40 to 85 degC, 48-pin SOP (DL), Green (RoHS & no Sb/Br); Manufacturer: Texas Instruments; PartNumber: MSP430FG4250IDLR; ADC: 16-bit Sigma Delta; DAC: 1; Flash(KB): 16; Frequency(MHz): 8; GPIO: 32; LCD Segments: 56; SRAM(B): 256; SubFamily: 4 Series with LCD; Temp Sensor: Yes; DatasheetVersion: SLAS556A; PackageVersion: 4040048/E; PackageReference: DL48; PackageDescription: 48-Pin Plastic Small Outline, Body 7.49 x 15.88 mm, Pitch 0.635 mm; Supplier 1: Digi-Key; Supplier Part Number 1: 296-22056-5-ND; Supplier 2: Farnell; Supplier Part Number 2: 1903454; Supplier 3: Newark; Supplier Part Number 3: 54M7241; Supplier 4: Mouser; Supplier Part Number 4: 595-MSP430FG4250IDL; Eco-Plan: Green (RoHS & no Sb/Br); Mounting Technology: Surface Mount; Code_JEDEC: MO-118; ComponentLink1Description: Manufacturer URL; ComponentLink1URL: http://www.ti.com/; ComponentLink2Description: Datasheet; ComponentLink2URL: http://www.ti.com/general/docs/lit/getliterature.tsp?genericPartNumber=MSP430FG4250&fileType=pdf; ComponentLink3Description: Package Specification; ComponentLink3URL: http://www.ti.com/lit/ml/msso001c/msso001c.pdf
footprint TI-DL48_N (SOP, 48-Leads, Body 15.88x7.49mm, Pitch 0.635mm, IPC Medium Density)
pins: 1 TDO/TDI (io), 2 TDI/TCLK (in), 3 TMS (in) "Test mode select. TMS is used as an input port for device programming and test.", 4 TCK (in) "Test clock. TCK is the clock input port for device programming and test.", 5 ~{RST}/NMI (in), 6 DVCC (power) "Digital supply voltage, positive terminal", 7 DVSS (power) "Digital supply voltage, negative terminal", 8 XIN "Input terminal of crystal oscillator XT1", 9 XOUT "Output terminal of crystal oscillator XT1", 10 AVSS (power) "Analog supply voltage, negative terminal", 11 AVCC (power) "Analog supply voltage, positive terminal", 12 VREF "Analog reference voltage", 13 P6.0/A0+/OA0O (io), 14 P6.1/A0-/OA0FB (io), 15 P6.2/A1+/OA1O (io), 16 P6.3/A1-/OA1FB (io), 17 P6.4/OA0I1 (io), 18 P6.5/OA0I2 (io), 19 P6.6/OA1I1 (io), 20 P6.7/OA1I2 (io), 21 P1.7/A2+ (io), 22 P1.6/A2-/OA0I0 (io), 23 P1.5/TACLK/ACLK/A3+ (io), 24 P1.4/A3-/OA1I0/DAC0 (io), 25 P1.3/TA2/A4+ (io), 26 P1.2/TA1/A4- (io), 27 P1.1/TA0/MCLK (io), 28 P1.0/TA0 (io), 29 LCDREF/R13, 30 LCDCAP/R23, 31 P5.1/S0 (io), 32 P5.0/S1 (io), 33 P5.5/S2 (io), 34 P5.6/S3 (io), 35 P5.7/S4 (io), 36 S5 (out) "LCD segment output 5", 37 P2.7/S6 (io), 38 P2.6/S7 (io), 39 P2.5/S8 (io), 40 P2.4/S9 (io), 41 P2.3/S10 (io), 42 P2.2/S11 (io), 43 P2.1/S12/SW1C (io), 44 P2.0/S13/SW0C (io), 45 COM0 (out) "Common output, COM0-3 are used for LCD backplanes.", 46 P5.2/COM1 (io), 47 P5.3/COM2 (io), 48 P5.4/COM3 (io)

## MSP430FG4250IRGZR
designator U?
8 MHz Mixed Signal Microcontroller with 16 KB Flash, 256 B SRAM and 32 GPIOs, -40 to 85 degC, 48-pin QFN (RGZ), Green (RoHS & no Sb/Br); Manufacturer: Texas Instruments; PartNumber: MSP430FG4250IRGZR; ADC: 16-bit Sigma Delta; DAC: 1; Flash(KB): 16; Frequency(MHz): 8; GPIO: 32; LCD Segments: 56; SRAM(B): 256; SubFamily: 4 Series with LCD; Temp Sensor: Yes; DatasheetVersion: SLAS556A; PackageVersion: 4204101/F; PackageReference: RGZ48-5150X5150TP; PackageDescription: 48-Pin Plastic Flat Pack, Body 7 x 7 mm, Pitch 0.5 mm; Supplier 1: Digi-Key; Supplier Part Number 1: MSP430FG4250IDLR-ND; Supplier 2: Mouser; Supplier Part Number 2: 595-MSP430FG4250IDLR; Eco-Plan: Green (RoHS & no Sb/Br); Mounting Technology: Surface Mount; Code_JEDEC: MO-220; ComponentLink1Description: Manufacturer URL; ComponentLink1URL: http://www.ti.com/; ComponentLink2Description: Datasheet; ComponentLink2URL: http://www.ti.com/general/docs/lit/getliterature.tsp?genericPartNumber=MSP430FG4250&fileType=pdf; ComponentLink3Description: Package Specification; ComponentLink3URL: http://www.ti.com/lit/ml/mpqf123e/mpqf123e.pdf
footprint TI-RGZ48-5150X5150TP_N (QFN, 48-Leads, Body 7x7mm, Pitch 0.5mm, Thermal Pad 5.15X5.15mm, IPC Medium Density)
pins: 1 DVSS (power) "Digital supply voltage, negative terminal", 2 XIN "Input terminal of crystal oscillator XT1", 3 XOUT "Output terminal of crystal oscillator XT1", 4 AVSS (power) "Analog supply voltage, negative terminal", 5 AVCC (power) "Analog supply voltage, positive terminal", 6 VREF "Analog reference voltage", 7 P6.0/A0+/OA0O (io), 8 P6.1/A0-/OA0FB (io), 9 P6.2/A1+/OA1O (io), 10 P6.3/A1-/OA1FB (io), 11 P6.4/OA0I1 (io), 12 P6.5/OA0I2 (io), 13 P6.6/OA1I1 (io), 14 P6.7/OA1I2 (io), 15 P1.7/A2+ (io), 16 P1.6/A2-/OA0I0 (io), 17 P1.5/TACLK/ACLK/A3+ (io), 18 P1.4/A3-/OA1I0/DAC0 (io), 19 P1.3/TA2/A4+ (io), 20 P1.2/TA1/A4- (io), 21 P1.1/TA0/MCLK (io), 22 P1.0/TA0 (io), 23 LCDREF/R13, 24 LCDCAP/R23, 25 P5.1/S0 (io), 26 P5.0/S1 (io), 27 P5.5/S2 (io), 28 P5.6/S3 (io), 29 P5.7/S4 (io), 30 S5 (out) "LCD segment output 5", 31 P2.7/S6 (io), 32 P2.6/S7 (io), 33 P2.5/S8 (io), 34 P2.4/S9 (io), 35 P2.3/S10 (io), 36 P2.2/S11 (io), 37 P2.1/S12/SW1C (io), 38 P2.0/S13/SW0C (io), 39 COM0 (out) "Common output. COM0-COM3 are used for LCD backplanes.", 40 P5.2/COM1 (io), 41 P5.3/COM2 (io), 42 P5.4/COM3 (io), 43 TDO/TDI (io), 44 TDI/TCLK (in), 45 TMS (in) "Test mode select. TMS is used as an input port for device programming and test.", 46 TCK (in) "Test clock. TCK is the clock input port for device programming and test.", 47 ~{RST}/NMI (in), 48 DVCC (power) "Digital supply voltage, positive terminal", 49 QFN PAD (power) "QFN package pad connection to DVSS is recommended."